# Altium footprint library Toshiba optocoupler.PcbLib: 2 footprints
Each footprint in its own frame and in the unit in brackets; x right, y up, seen from the top. Pads: shape width x height; smd on the part's side, far side on the other; paste and mask are expansions set on the pad; w line width, h text height; cw(c..) or ccw(c..) is an arc to the next point about the centre after c.
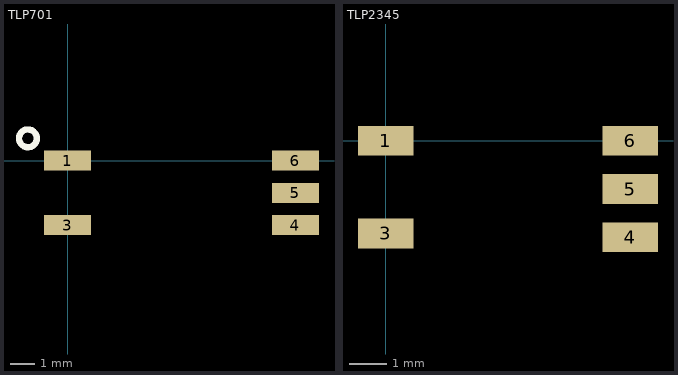
[diagram p0: the footprints below, top view; thin cyan lines are the x and y axes]

## TLP701 [mm]
pads (5):
  rect 1.9x0.8 smd: 1(0,0) 3(0,-2.6) 4(9.2,-2.6) 5(9.2,-1.3) 6(9.2,0)
Top Overlay:
  circle w0.254: c-1.6,0.9 r0.361
3D body "SDIP6_90deg.stp": height 4, standoff 0, extent -0.35,-3.59 9.35,0.99

## TLP2345 [mm]
pads (5):
  rect 1.5x0.8 smd: 1(0,0) 3(0,-2.5) 4(6.6,-2.6) 5(6.6,-1.3) 6(6.6,0)
3D body "5pin_SO6_z90.stp": height 2.2, standoff 0, extent -0.3,-3.15 6.7,0.55